# EAGLE library part ADP3625ARDZ (library William)
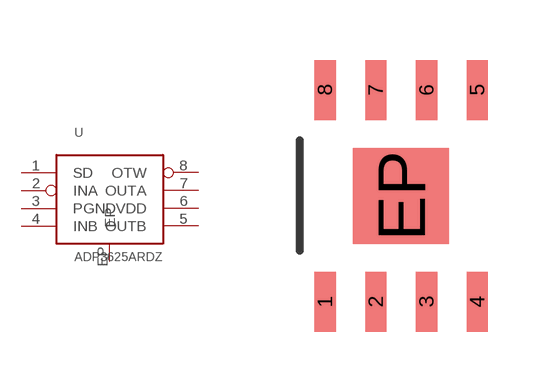
[diagram p3: symbol with the pads of SO-8-AD; footprint SO-8-AD]

Designator prefix -

## ADP3625ARDZ  [SO-8-AD]
1  SD  in
2  INA  in
3  PGND  pwr
4  INB  in
5  OUTB  out
6  VDD  pwr
7  OUTA  out
8  OTW  out
EP  EP

## Footprint SO-8-AD (pad centres in mm)
smd 0.533 x 1.5: 1 0,0; 2 1.27,0; 3 2.54,0; 4 3.81,0; 5 3.81,5.3; 6 2.54,5.3; 7 1.27,5.3; 8 0,5.3
smd 2.4 x 2.4: EP 1.9,2.65